# EAGLE library part 10PIN (library FaBo-Breakout)
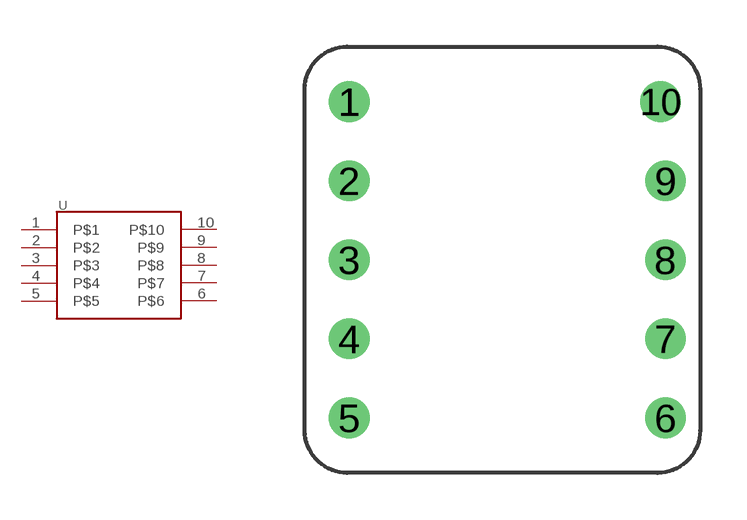
[diagram p0: symbol with the pads of 10PIN; footprint 10PIN]

Designator prefix -

## 10PIN  [10PIN]
1  P$1
2  P$2
3  P$3
4  P$4
5  P$5
6  P$6
7  P$7
8  P$8
9  P$9
10  P$10

## Footprint 10PIN (pad centres in mm)
drill 0.8: 1 -4.92,1.27; 2 -4.92,-1.27; 3 -4.92,-3.81; 4 -4.92,-6.35; 5 -4.92,-8.89; 6 5.24,-8.89; 7 5.24,-6.35; 8 5.24,-3.81; 9 5.24,-1.27; 10 5.08,1.27